# Altium footprint library MZW.PcbLib: 20 footprints (part 2 of 2)
Each footprint in its own frame and in the unit in brackets; x right, y up, seen from the top. Pads: shape width x height; smd on the part's side, far side on the other; paste and mask are expansions set on the pad; w line width, h text height; cw(c..) or ccw(c..) is an arc to the next point about the centre after c.
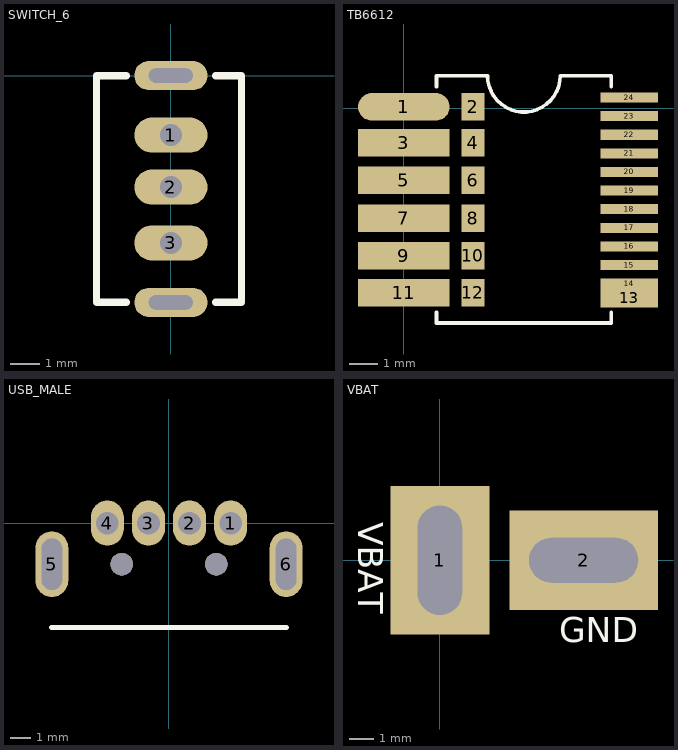
[diagram p1: the footprints below, top view; thin cyan lines are the x and y axes]

## SWITCH_6 [mm]
height 5
pads (5):
  oval 2.5x1.2 hole 0.75: 1(0,-2.032) 2(0,-3.81) 3(0,-5.715)
  oval 2.5x1 hole 0.5 slot 1.5 at 0 deg: ""(0,-7.747) ""(0,0)
Top Overlay:
  lines w0.25: -1.524,-7.747 -2.54,-7.747 -2.54,0 -1.524,0 ; 1.524,-7.747 2.413,-7.747 2.413,0 1.524,0

## TB6612 [mm]
height 2
pads (24):
  oval 3.2x0.96 smd: 1(0,0.056)
  rect 0.8x0.96 smd: 2(2.413,0.056) 4(2.413,-1.192) 6(2.413,-2.511) 8(2.413,-3.831) 10(2.413,-5.15) 12(2.413,-6.439)
  rect 3.2x0.96 smd: 3(0,-1.192) 5(0,-2.511) 7(0,-3.831) 9(0,-5.15) 11(0,-6.439)
  rect 2x0.7 smd: 13(7.874,-6.604)
  rect 2x0.35 smd: 14(7.874,-6.119) 15(7.874,-5.469) 16(7.874,-4.819) 17(7.874,-4.169) 18(7.874,-3.519) 19(7.874,-2.869) 20(7.874,-2.219) 21(7.874,-1.569) 22(7.874,-0.919) 23(7.874,-0.269) 24(7.874,0.381)
Top Overlay:
  lines w0.127: 1.143,-7.112 1.143,-7.493 7.239,-7.493 7.239,-7.112 ; 1.143,0.762 1.143,1.143 2.921,1.143 ccw(c4.191,1.143) 5.461,1.143 7.239,1.143 7.239,0.762

## USB_MALE [mm]
height 2
pads (8):
  oval 1.6x2.2 hole 1.1: 1(3,0) 2(1,0) 3(-1,0) 4(-3,0)
  oval 1.6x3.2 hole 1 slot 2.5 at 90 deg: 5(-5.7,-2) 6(5.7,-2)
  round 1.1 hole 1.1: ""(-2.3,-2) ""(2.3,-2)
Top Overlay:
  lines w0.25: -5.715,-5.08 5.715,-5.08

## VBAT [mm]
height 5
pads (2):
  rect 4x6 hole 1.8 slot 4.4 at 90 deg: 1(0,0)
  rect 6x4 hole 1.8 slot 4.4 at 0 deg: 2(5.8,0)
Top Overlay:
  text "VBAT" at -3.302,1.524 h1.02
  text "GND" at 4.826,-3.302 h1.02